# Altium schematic symbol library NewInfLibSc.SchLib: 10 symbols
Pins are listed as number, name and electrical type; pins without a type are passive.

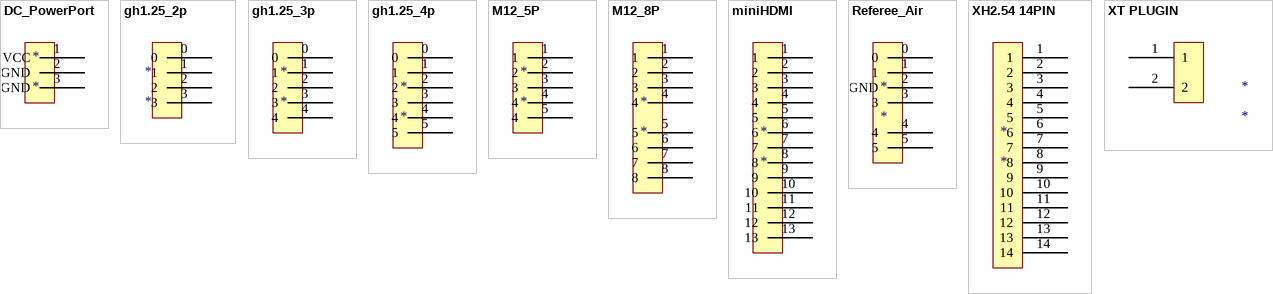
[diagram p0: symbols DC_PowerPort to XT PLUGIN]

## DC_PowerPort
designator *
footprint DC-012 (5.5*2.1                  淘宝ID:黄晶宝石)
pins: 1 VCC, 2 GND, 3 GND

## gh1.25_2p
designator *
pins: 0, 1, 2, 3

## gh1.25_3p
designator *
footprint GH1.25-LS-3P (A1257WR-S-3P)
footprint GH1.25-WS-3P (A1257WR-S-3P)
pins: 0, 1, 2, 3, 4

## gh1.25_4p
designator *
footprint GH1.25-LS-4P (A1257WR-S-4P)
footprint GH1.25-WS-4P (A1257WR-S-4P)
pins: 0, 1, 2, 3, 4, 5

## M12_5P
designator *
footprint M12 5PIN
pins: 1, 2, 3, 4, 5 4

## M12_8P
designator *
footprint M12 8PIN
pins: 1, 2, 3, 4, 5, 6, 7, 8

## miniHDMI
designator *
footprint HDMI-MINI-19 (HDMI-MINI-19pin JACK  封装库来自淘宝卖家 ID：黄晶宝石)
pins: 1, 2, 3, 4, 5, 6, 7, 8, 9, 10, 11, 12, 13

## Referee_Air
designator *
footprint M8 CONNECTOR-LS
footprint M8 Connector-WS
pins: 0, 1, 2 GND, 3, 4, 5

## XH2.54 14PIN
designator *
footprint DC-2.54-L-Z-14P (立式直插简牛插座，间距2.54 淘宝ID:黄晶宝石   店铺网址:https://shop463601444.taobao.com)
footprint PHB2.0-LI-2x7P (长：16mm，宽：7.3mm，高：7.8mm)
pins: 1, 2, 3, 4, 5, 6, 7, 8, 9, 10, 11, 12, 13, 14

## XT PLUGIN
designator *
footprint XT30-M
pins: 1, 2